# Altium schematic symbol library INA219.SchLib: 1 symbol
Pins are listed as number, name and electrical type; pins without a type are passive.

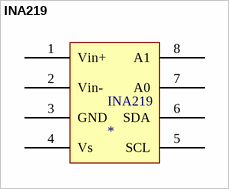
[diagram p0: symbol INA219]

## INA219
designator INA219
footprint INA219 (TSOP, 8-Leads, Body 2.90x1.60mm, Pitch 0.65mm, IPC Medium Density)
pins: 1 Vin+, 2 Vin-, 3 GND, 4 Vs, 5 SCL, 6 SDA, 7 A0, 8 A1